# Altium schematic symbol library Res_Murata_ZRB18AR6YA475ME05L_4.7uF.SchLib: 1 symbol
Pins are listed as number, name and electrical type; pins without a type are passive.

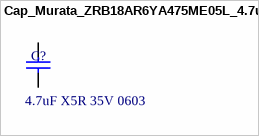
[diagram p0: symbol Cap_Murata_ZRB18AR6YA475ME05L_4.7uF]

## Cap_Murata_ZRB18AR6YA475ME05L_4.7uF
designator C?  Capacitance: 4.7uF X5R 35V 0603  (hidden comment: Cap_Murata_ZRB18AR6YA475ME05L_4.7uF)
CAP CER 4.7uF 35V X5R 0603; Supplier 1: Mouser; Supplier Part Number 1: 81-ZRB18AR6YA475ME5L
pins: 1, 2